# Altium footprint library 研发中心PCB库文件.PcbLib: 333 footprints (part 9 of 21)
Each footprint in its own frame and in the unit in brackets; x right, y up, seen from the top. Pads: shape width x height; smd on the part's side, far side on the other; paste and mask are expansions set on the pad; w line width, h text height; cw(c..) or ccw(c..) is an arc to the next point about the centre after c.
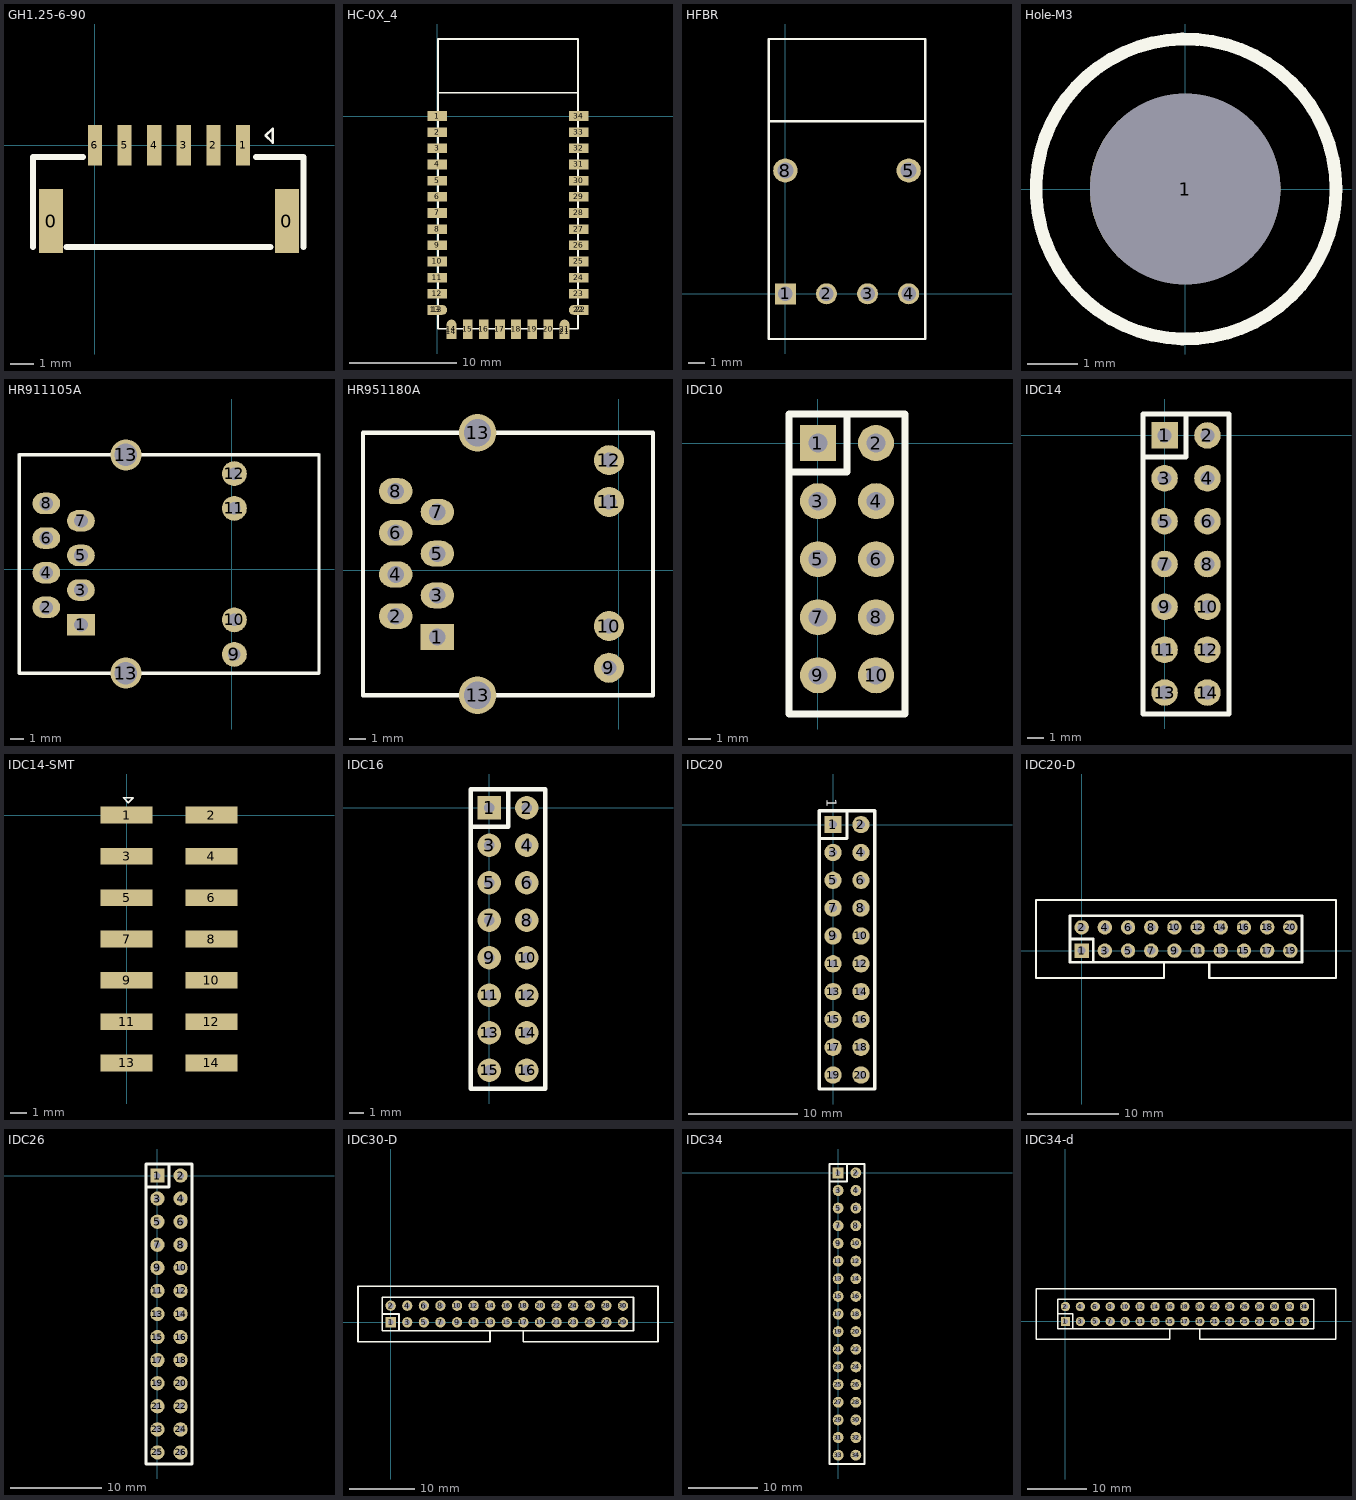
[diagram p8: the footprints below, top view; thin cyan lines are the x and y axes]

## GH1.25-6-90 [mm]
pads (8):
  rect 1x2.7 smd: 0(-1.85,-3.2) 0(8.1,-3.2)
  rect 0.6x1.7 smd: 1(6.25,0) 2(5,0) 3(3.75,0) 4(2.5,0) 5(1.25,0) 6(0,0)
Top Overlay:
  lines w0.1: 7.2,0.4 7.5,0.1 7.5,0.3 7.5,0.7 7.2,0.4 ; 7.2,0.4 7.2,0.4
  lines w0.254: -2.6,-4.3 -2.6,-0.5 -0.5,-0.5 ; -1.2,-4.3 7.4,-4.3 ; 6.8,-0.5 8.8,-0.5 8.8,-4.3

## HC-0X_4 [mm]
pads (38):
  rect 1.8x0.9 smd: 1(0,0) 2(0,-1.5) 3(0,-3) 4(0,-4.5) 5(0,-6) 6(0,-7.5) 7(0,-9) 8(0,-10.5) 9(0,-12) 10(0,-13.5) 11(0,-15) 12(0,-16.5) 23(13.1,-16.5) 24(13.1,-15) 25(13.1,-13.5) 26(13.1,-12) 27(13.1,-10.5) 28(13.1,-9) 29(13.1,-7.5) 30(13.1,-6) 31(13.1,-4.5) 32(13.1,-3) 33(13.1,-1.5) 34(13.1,0)
  rect 1.35x0.9 smd: 13(-0.225,-18) 22(13.325,-18)
  oval 1.8x0.9 smd: 13(0,-18) 22(13.1,-18)
  rect 0.9x1.35 smd: 14(1.3,-20.025) 21(11.8,-20.025)
  oval 0.9x1.8 smd: 14(1.3,-19.8) 21(11.8,-19.8)
  rect 0.9x1.8 smd: 15(2.8,-19.8) 16(4.3,-19.8) 17(5.8,-19.8) 18(7.3,-19.8) 19(8.8,-19.8) 20(10.3,-19.8)
Top Overlay:
  lines w0.152: 0.05,2.15 13.05,2.15 ; 0.05,-19.75 13.05,-19.75 13.05,7.15 0.05,7.15 0.05,-19.75

## HFBR [mm]
pads (6):
  rect 1.3x1.3 hole 0.9: 1(0,0)
  round 1.3 hole 0.9: 2(2.54,0) 3(5.08,0) 4(7.62,0)
  round 1.5 hole 1: 5(7.62,7.62) 8(0,7.62)
Top Overlay:
  lines w0.152: -1.016,10.668 8.636,10.668 ; -1.016,-2.794 8.636,-2.794 8.636,15.748 -1.016,15.748 -1.016,-2.794

## Hole-M3 [mm]
pads (1):
  round 3.81 hole 3.81: 1(0,0)
Top Overlay:
  circle w0.254: c0.019,0 r3

## HR911105A [mil]
pads (14):
  rect 80x62 hole 40: 1(-434.98,-159.98)
  oval 80x62 hole 40: 2(-534.98,-109.98) 3(-434.98,-59.98) 4(-534.98,-9.98) 5(-434.98,40.02) 6(-534.98,90.02) 7(-434.98,140.02) 8(-534.98,190.02)
  round 72 hole 36: 9(7.93,-245.61) 10(7.93,-145.98) 11(7.93,175.88) 12(7.93,276.02)
  round 90 hole 65: 13(-305.06,-299.75) 13(-305.06,330.17)
Top Overlay:
  lines w10: -613.72,-299.98 -613.49,-299.75 ; -613.72,330.02 -613.57,330.17 ; -613.57,330.17 -305.06,330.17 252.26,330.17 252.42,330.02 252.42,-299.98 252.18,-299.75 -305.06,-299.75 -613.49,-299.75 ; -613.57,330.17 -613.57,-299.67 -613.49,-299.75
Multi-Layer:
  circle w5: c-174.98,-209.98 r70.8
  circle w5: c-174.98,240.02 r70.8

## HR951180A [mil]
height 688.98
pads (14):
  rect 80x62 hole 40: 1(-434.98,-159.98)
  oval 80x62 hole 40: 2(-534.98,-109.98) 3(-434.98,-59.98) 4(-534.98,-9.98) 5(-434.98,40.02) 6(-534.98,90.02) 7(-434.98,140.02) 8(-534.98,190.02)
  round 72 hole 36: 9(-23.17,-233.76) 10(-23.17,-133.76) 11(-23.17,164.27) 12(-23.17,264.27)
  round 90 hole 65: 13(-338.53,-299.75) 13(-338.53,330.17)
Top Overlay:
  lines w10: -613.72,-299.98 -613.49,-299.75 ; -613.72,330.02 -613.57,330.17 ; 82.68,-299.98 82.68,330.02 ; 82.68,-299.75 -305.06,-299.75 -613.49,-299.75 ; 82.68,330.17 -305.06,330.17 -613.57,330.17 ; -613.57,330.17 -613.57,-299.67 -613.49,-299.75
Multi-Layer:
  circle w5: c-184.98,240.25 r70.8
  circle w5: c-184.98,-209.75 r70.8

## IDC10 [mil]
pads (10):
  rect 62x62 hole 32: 1(0,0)
  round 62 hole 32: 2(100,0) 3(0,-100) 4(100,-100) 5(0,-200) 6(100,-200) 7(0,-300) 8(100,-300) 9(0,-400) 10(100,-400)
Top Overlay:
  lines w12: -50,-50 50,-50 50,50 ; -50,-466.54 -50,50 150,50 150,-466.54 -50,-466.54

## IDC14 [mil]
pads (14):
  rect 62x62 hole 32: 1(0,0)
  round 62 hole 32: 2(100,0) 3(0,-100) 4(100,-100) 5(0,-200) 6(100,-200) 7(0,-300) 8(100,-300) 9(0,-400) 10(100,-400) 11(0,-500) 12(100,-500) 13(0,-600) 14(100,-600)
Top Overlay:
  lines w12: -50,-50 50,-50 50,50 ; -50,-650 150,-650 150,50 -50,50 -50,-650

## IDC14-SMT [mm]
pads (14):
  rect 3.2x1.02 smd: 1(0,0) 2(5.2,0) 3(0,-2.54) 4(5.2,-2.54) 5(0,-5.08) 6(5.2,-5.08) 7(0,-7.62) 8(5.2,-7.62) 9(0,-10.16) 10(5.2,-10.16) 11(0,-12.7) 12(5.2,-12.7) 13(0,-15.24) 14(5.2,-15.24)
Top Overlay:
  lines w0.1: 0.1,0.76 0.4,1.06 0.2,1.06 -0.2,1.06 0.1,0.76 ; 0.1,0.76 0.1,0.76

## IDC16 [mil]
pads (16):
  rect 62x62 hole 28: 1(0,0)
  round 62 hole 28: 2(100,0) 3(0,-100) 4(100,-100) 5(0,-200) 6(100,-200) 7(0,-300) 8(100,-300) 9(0,-400) 10(100,-400) 11(0,-500) 12(100,-500) 13(0,-600) 14(100,-600) 15(0,-700) 16(100,-700)
Top Overlay:
  lines w12: -50,-50 50,-50 50,50 ; -50,-750 -50,50 150,50 150,-750 -50,-750

## IDC20 [mil]
pads (20):
  rect 62x62 hole 28: 1(0,0)
  round 62 hole 28: 2(100,0) 3(0,-100) 4(100,-100) 5(0,-200) 6(100,-200) 7(0,-300) 8(100,-300) 9(0,-400) 10(100,-400) 11(0,-500) 12(100,-500) 13(0,-600) 14(100,-600) 15(0,-700) 16(100,-700) 17(0,-800) 18(100,-800) 19(0,-900) 20(100,-900)
Top Overlay:
  lines w12: -50,-50 50,-50 50,50 ; -50,-950 -50,50 150,50 150,-950 -50,-950
  text "1" at -22,93 h35

## IDC20-D [mil]
pads (20):
  rect 62x62 hole 35: 1(0,0)
  round 62 hole 35: 2(0,100) 3(100,0) 4(100,100) 5(200,0) 6(200,100) 7(300,0) 8(300,100) 9(400,0) 10(400,100) 11(500,0) 12(500,100) 13(600,0) 14(600,100) 15(700,0) 16(700,100) 17(800,0) 18(800,100) 19(900,0) 20(900,100)
Top Overlay:
  lines w10: 355,-50 355,-118.11 -196.85,-118.11 -196.85,218.11 1096.85,218.11 1096.85,-118.11 550,-118.11 550,-50
  lines w12: -50,50 50,50 50,-50 ; -50,-50 -50,150 950,150 950,-50 -50,-50

## IDC26 [mil]
pads (26):
  rect 62x62 hole 28: 1(0,0)
  round 62 hole 28: 2(100,0) 3(0,-100) 4(100,-100) 5(0,-200) 6(100,-200) 7(0,-300) 8(100,-300) 9(0,-400) 10(100,-400) 11(0,-500) 12(100,-500) 13(0,-600) 14(100,-600) 15(0,-700) 16(100,-700) 17(0,-800) 18(100,-800) 19(0,-900) 20(100,-900) 21(0,-1000) 22(100,-1000) 23(0,-1100) 24(100,-1100) 25(0,-1200) 26(100,-1200)
Top Overlay:
  lines w12: -50,-50 50,-50 50,50 ; -50,-1250 150,-1250 150,50 -50,50 -50,-1250

## IDC30-D [mil]
pads (30):
  rect 62x62 hole 35: 1(0.98,-0.98)
  round 62 hole 35: 2(0.98,99.02) 3(100.98,-0.98) 4(100.98,99.02) 5(200.98,-0.98) 6(200.98,99.02) 7(300.98,-0.98) 8(300.98,99.02) 9(400.98,-0.98) 10(400.98,99.02) 11(500.98,-0.98) 12(500.98,99.02) 13(600.98,-0.98) 14(600.98,99.02) 15(700.98,-0.98) 16(700.98,99.02) 17(800.98,-0.98) 18(800.98,99.02) 19(900.98,-0.98) 20(900.98,99.02) 21(1000.98,-0.98) 22(1000.98,99.02) 23(1100.98,-0.98) 24(1100.98,99.02) 25(1200.98,-0.98) 26(1200.98,99.02) 27(1300.98,-0.98) 28(1300.98,99.02) 29(1400.98,-0.98) 30(1400.98,99.02)
Top Overlay:
  lines w10: -49.02,49.02 50.98,49.02 50.98,-50.98 ; 599.79,-50.98 599.79,-119.1 -195.87,-119.1 -195.87,217.13 1612.01,217.13 1612.01,-119.1 799.62,-119.1 799.62,-50.98 ; -49.02,-50.98 1464.37,-50.98 1464.37,149.02 -49.02,149.02 -49.02,-50.98

## IDC34 [mil]
pads (34):
  rect 62x62 hole 28: 1(0,0)
  round 62 hole 28: 2(100,0) 3(0,-100) 4(100,-100) 5(0,-200) 6(100,-200) 7(0,-300) 8(100,-300) 9(0,-400) 10(100,-400) 11(0,-500) 12(100,-500) 13(0,-600) 14(100,-600) 15(0,-700) 16(100,-700) 17(0,-800) 18(100,-800) 19(0,-900) 20(100,-900) 21(0,-1000) 22(100,-1000) 23(0,-1100) 24(100,-1100) 25(0,-1200) 26(100,-1200) 27(0,-1300) 28(100,-1300) 29(0,-1400) 30(100,-1400) 31(0,-1500) 32(100,-1500) 33(0,-1600) 34(100,-1600)
Top Overlay:
  lines w12: -50,-50 50,-50 50,50 ; -50,-1650 -50,50 150,50 150,-1650 -50,-1650

## IDC34-d [mil]
pads (34):
  rect 62x62 hole 35: 1(0.98,-0.98)
  round 62 hole 35: 2(0.98,99.02) 3(100.98,-0.98) 4(100.98,99.02) 5(200.98,-0.98) 6(200.98,99.02) 7(300.98,-0.98) 8(300.98,99.02) 9(400.98,-0.98) 10(400.98,99.02) 11(500.98,-0.98) 12(500.98,99.02) 13(600.98,-0.98) 14(600.98,99.02) 15(700.98,-0.98) 16(700.98,99.02) 17(800.98,-0.98) 18(800.98,99.02) 19(900.98,-0.98) 20(900.98,99.02) 21(1000.98,-0.98) 22(1000.98,99.02) 23(1100.98,-0.98) 24(1100.98,99.02) 25(1200.98,-0.98) 26(1200.98,99.02) 27(1300.98,-0.98) 28(1300.98,99.02) 29(1400.98,-0.98) 30(1400.98,99.02) 31(1500.98,-0.98) 32(1500.98,99.02) 33(1600.98,-0.98) 34(1600.98,99.02)
Top Overlay:
  lines w10: -49.02,49.02 50.98,49.02 50.98,-50.98 ; 700.79,-50.98 700.79,-119.1 -195.87,-119.1 -195.87,217.13 1812.01,217.13 1812.01,-119.1 898.62,-119.1 898.62,-50.98 ; -49.02,-50.98 -49.02,149.02 1664.37,149.02 1664.37,-50.98 -49.02,-50.98